# Altium footprint library 763A7EFC-D1AC-41FC-861F-90DBA274E34D_FP-GRM155-0_15-IPC_A.PcbLib: 1 footprints
Each footprint in its own frame and in the unit in brackets; x right, y up, seen from the top. Pads: shape width x height; smd on the part's side, far side on the other; paste and mask are expansions set on the pad; w line width, h text height; cw(c..) or ccw(c..) is an arc to the next point about the centre after c.
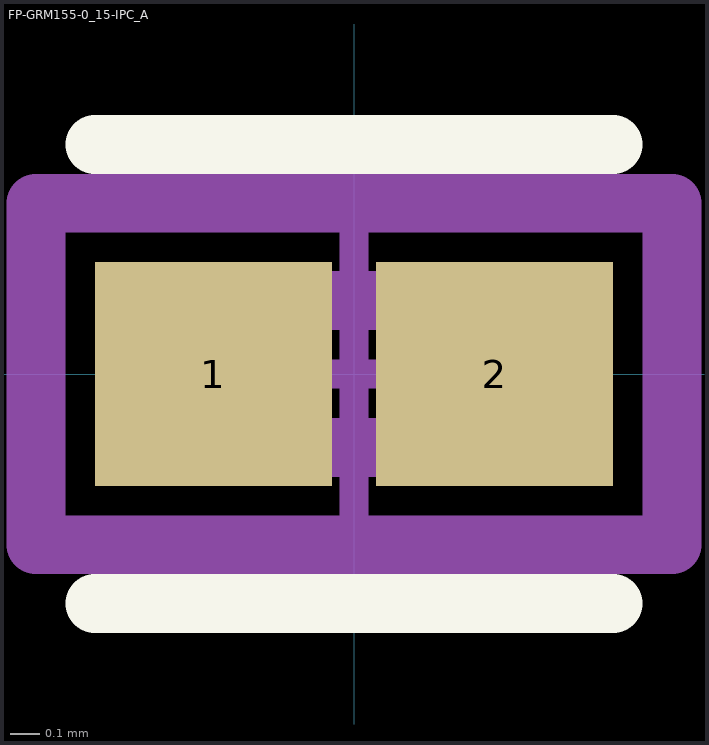
[diagram p0: the footprint, top view; thin cyan lines are the x and y axes]

## FP-GRM155-0_15-IPC_A [mm]
pads (2):
  rect 0.804x0.758 smd paste+0 mask+0: 1(-0.477,0) 2(0.477,0)
Top Overlay:
  lines w0.2: -0.879,-0.779 0.879,-0.779 ; -0.879,0.779 0.879,0.779
Top Assembly:
  lines w0.2: -1.079,-0.579 -1.079,0.579 1.079,0.579 1.079,-0.579 -1.079,-0.579
  text ".Designator" at 0,0.188 h1
Top 3D Body:
  lines w0.2: -0.5,-0.25 -0.5,0.25 0.5,0.25 0.5,-0.25 -0.5,-0.25
Top Courtyard:
  lines w0.2: -1.079,-0.579 -1.079,0.579 1.079,0.579 1.079,-0.579 -1.079,-0.579
Top Component Center:
  lines w0.1: -0.5,0 0.5,0 ; 0,-0.5 0,0.5
3D body "Cap_Murata_GRM155R61A475MEAAD_eec.STEP": height 0.25, standoff 0, extent -1.079,-0.579 1.079,0.579